# EAGLE library part 7-SEGMENT-DISPLAY-1"-RED (library balto)
7-Segment Display 1" Red (COM-08546)
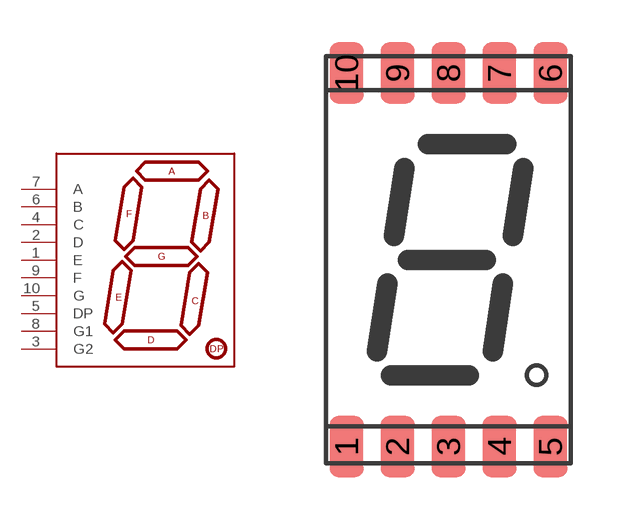
[diagram p27: symbol with the pads of 7-SEGMENT-SMD; footprint 7-SEGMENT-SMD]

Designator prefix -

## 7-SEGMENT-DISPLAY-1"-RED  [7-SEGMENT-SMD]
1  E
2  D
3  G2
4  C
5  DP
6  B
7  A
8  G1
9  F
10  G

## Footprint 7-SEGMENT-SMD (pad centres in mm)
7 Segment display Storefront SKU#: COM-08546
smd 1 x 1.8: 1 -3,-5.5; 2 -1.5,-5.5; 3 0,-5.5; 4 1.5,-5.5; 5 3,-5.5; 6 3,5.5; 7 1.5,5.5; 8 0,5.5; 9 -1.5,5.5; 10 -3,5.5